# Altium footprint library PHOENIX_1803277.PcbLib: 1 footprints
Each footprint in its own frame and in the unit in brackets; x right, y up, seen from the top. Pads: shape width x height; smd on the part's side, far side on the other; paste and mask are expansions set on the pad; w line width, h text height; cw(c..) or ccw(c..) is an arc to the next point about the centre after c.
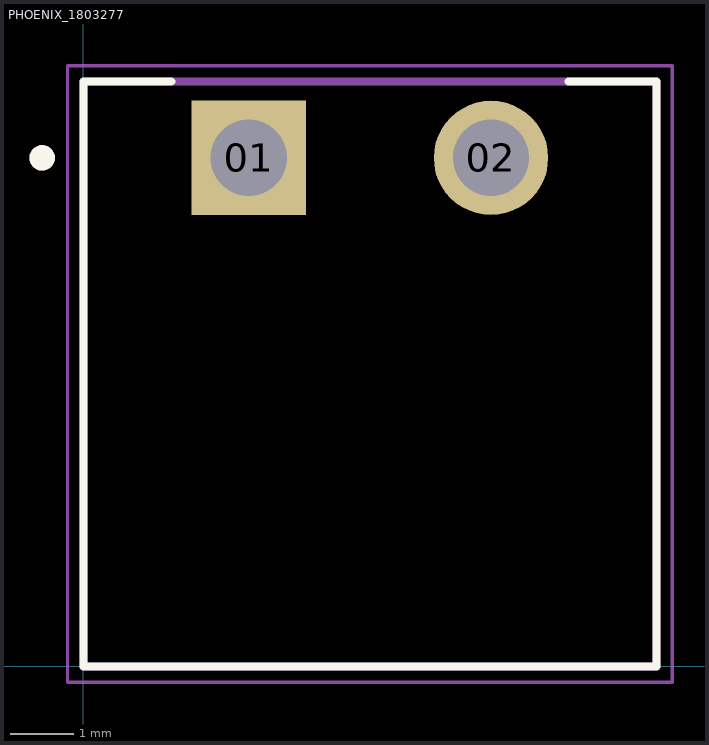
[diagram p0: the footprint, top view; thin cyan lines are the x and y axes]

## PHOENIX_1803277 [mm]
pads (2):
  rect 1.8x1.8 / inner round 1.8 / far side rect 1.8x1.8 hole 1.2: 01(2.6,8)
  round 1.8 hole 1.2: 02(6.41,8)
Top Overlay:
  circle w0.2: c-0.65,8 r0.1
  lines w0.127: 1.38,9.2 0,9.2 0,0 9.01,0 9.01,9.2 7.63,9.2
Mechanical 13:
  circle w0.2: c-0.65,8 r0.1
  lines w0.127: 0,0 9.01,0 9.01,9.2 0,9.2 0,0
Mechanical 15:
  lines w0.05: -0.25,-0.25 9.26,-0.25 9.26,9.45 -0.25,9.45 -0.25,-0.25
3D body "step_temp.STEP": height 7.4, standoff -3.6, extent 0,0 9.01,9.2